# Altium footprint library iTOP4412_main_Clasics_v3_2.PcbLib: 41 footprints (part 3 of 3)
Each footprint in its own frame and in the unit in brackets; x right, y up, seen from the top. Pads: shape width x height; smd on the part's side, far side on the other; paste and mask are expansions set on the pad; w line width, h text height; cw(c..) or ccw(c..) is an arc to the next point about the centre after c.
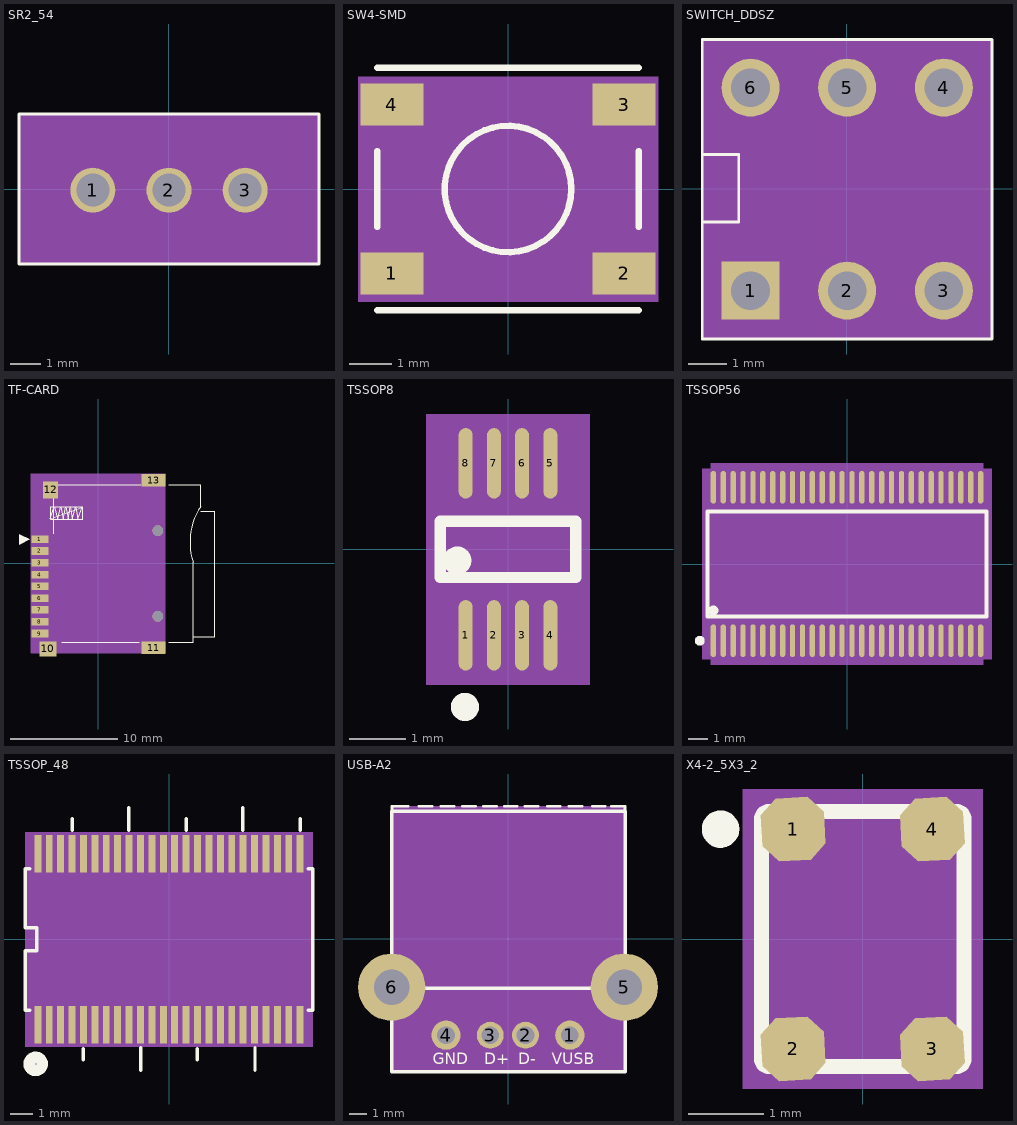
[diagram p2: the footprints below, top view; thin cyan lines are the x and y axes]

## SR2_54 [mm] "SR2_54"
pads (3):
  round 1.5 / inner round 1.524 / far side round 1.5 hole 1.1: 1(-2.54,-0.04) 2(0,-0.04) 3(2.54,-0.04)
Top Overlay:
  lines w0.1: -5,-2.5 5,-2.5 5,2.5 -5,2.5 -5,-2.5
Mechanical 9:
  text "3" at 2.54,0.214 h0.64
  text "1" at -3.81,0.468 h0.64
  text "2" at 0,0.214 h0.64
Mechanical 10:
  region: -5,-2.5 -5,2.5 5,2.5 5,-2.5

## SW4-SMD [mm] "SW4-SMD"
pads (4):
  rect 1.5x1 smd: 1(-2.75,-2) 2(2.75,-2) 3(2.75,2) 4(-2.75,2)
Top Overlay:
  circle w0.15: c0,0 r1.5
  lines w0.15: -3.1,-2.873 3.1,-2.873 ; -3.1,-0.9 -3.1,0.9 ; -3.1,2.873 3.1,2.873 ; 3.1,-0.9 3.1,0.9
Mechanical 9:
  text "2" at 2.51,-2 h0.6
  text "1" at -2.99,-2 h0.6
  text "3" at 2.51,2 h0.6
  text "4" at -2.99,2 h0.6
Mechanical 10:
  region: -3.556,2.667 3.556,2.667 3.556,-2.667 -3.556,-2.667

## SWITCH_DDSZ [mil] "SWITCH_DDSZ"
pads (6):
  rect 60x60 / inner round 60 / far side rect 60x60 hole 40: 1(-99.65,-105.33)
  round 60 hole 40: 2(0.35,-105.33) 3(100.35,-105.33) 4(100.35,104.67) 5(0.35,104.67) 6(-99.65,104.67)
Top Overlay:
  lines w3: -149.65,104.67 -149.65,154.66 150.35,154.66 150.35,-155.34 -149.65,-155.34 -149.65,104.81 ; -149.22,-34.07 -111.88,-34.07 -111.88,35.42 -148.81,35.42 ; -149.65,104.81 -149.63,104.81
Mechanical 9:
  text "5" at 20.35,104.67 h25
  text "2" at 20.35,-105.33 h25
  text "3" at 120.35,-105.33 h25
  text "6" at -79.65,104.67 h25
  text "4" at 120.35,104.67 h25
  text "1" at -79.65,-105.33 h25
Mechanical 10:
  region: -150.06,-155.08 150.06,-155.08 150.06,155.08 -150.06,155.08

## TF-CARD [mil] "TF-CARD"
pads (15):
  rect 63x28 smd: 1(-214.56,88.58) 2(-214.56,45.28) 3(-214.56,1.97) 4(-214.56,-41.34) 5(-214.56,-84.64) 6(-214.56,-127.95) 7(-214.56,-171.26) 8(-214.56,-214.57) 9(-214.56,-257.87)
  rect 63x55 smd: 10(-185.19,-314.12)
  rect 87x47 smd: 11(202.75,-310.12) 13(202.75,305.12)
  rect 55x63 smd: 12(-175.19,269.69)
  round 39.37 / inner round 60 / far side round 39.37 hole 39.37: " "(218.5,-194.88) " "(218.5,120.08)
Top Overlay:
  pour cut-out: -291.5,107.6 -291.5,67.6 -251.5,87.6
  lines w3: -163.38,108.27 -163.38,289.37 156.69,289.37 ; -134.01,-289.37 149.44,-289.37 ; 257.88,-289.37 348.43,-289.37 348.43,3.94 cw(c573.74,77.57) 375.98,208.27 375.99,289.37 257.88,289.37 ; 350,-269.68 427.17,-269.68 427.17,190.95 376.38,190.95 ; -175.99,163.39 -58.27,206.69 -75.98,161.81 -82.28,208.27 -95.28,161.81 -102.75,208.27 -111.42,161.81 -119.3,208.27 -128.34,161.81 -138.19,208.27 -150,161.81 -161.41,208.27 -175.99,163.39 ; -175.19,161.42 -175.19,208.66 -57.09,208.66 -57.09,161.42 -175.19,161.42
Mechanical 9:
  text "8" at -204.56,-214.57 h25
  text "7" at -204.56,-171.26 h25
  text "5" at -204.56,-84.64 h25
  text "1" at -204.56,88.58 h25
  text "3" at -204.56,1.97 h25
  text "2" at -204.56,45.28 h25
  text "4" at -204.56,-41.34 h25
  text "10" at -165.19,-314.12 h25
  text "11" at 222.75,-310.12 h25
  text "13" at 222.75,305.12 h25
  text "6" at -204.56,-127.95 h25
  text "12" at -155.19,269.69 h25
  text "9" at -204.56,-257.87 h25
Mechanical 10:
  region: -246.06,-328.74 246.06,-328.74 246.06,328.74 -246.06,328.74
Mechanical 11:
  lines w1: -246.06,-328.74 246.06,-328.74 246.06,328.74 -246.06,328.74 -246.06,-328.74

## TSSOP8 [mm] "TSSOP8"
pads (8):
  oval 0.25x1.25 smd: 1(-0.75,-1.525) 2(-0.25,-1.525) 3(0.25,-1.525) 4(0.75,-1.525) 5(0.75,1.525) 6(0.25,1.525) 7(-0.25,1.525) 8(-0.75,1.525)
Top Overlay:
  circle w0.25: c-0.9,-0.2 r0.125
  circle w0.25: c-0.762,-2.794 r0.125
  lines w0.2: -1.2,-0.5 1.2,-0.5 1.2,0.5 -1.2,0.5 -1.2,-0.5
Mechanical 9:
  text "1" at -0.75,-1.885 h0.4
  text "8" at -0.75,1.165 h0.4
  text "3" at 0.25,-1.885 h0.4
  text "5" at 0.75,1.165 h0.4
  text "7" at -0.25,1.165 h0.4
  text "2" at -0.25,-1.885 h0.4
  text "4" at 0.75,-1.885 h0.4
  text "6" at 0.25,1.165 h0.4
Mechanical 10:
  region: -1.45,-2.4 1.45,-2.4 1.45,2.4 -1.45,2.4
Mechanical 12:
  pour cut-out: -0.875,-1.6 -0.875,-1.05 -1.2,-1.05 -1.2,1.05 -0.875,1.05 -0.875,1.6 0.875,1.6 0.875,1.05 1.2,1.05 1.2,-1.05 0.875,-1.05 0.875,-1.6

## TSSOP56 [mm] "TSSOP56"
pads (56):
  oval 0.27x1.65 smd: 1(-6.75,-3.875) 2(-6.25,-3.875) 3(-5.75,-3.875) 4(-5.25,-3.875) 5(-4.75,-3.875) 6(-4.25,-3.875) 7(-3.75,-3.875) 8(-3.25,-3.875) 9(-2.75,-3.875) 10(-2.25,-3.875) 11(-1.75,-3.875) 12(-1.25,-3.875) 13(-0.75,-3.875) 14(-0.25,-3.875) 15(0.25,-3.875) 16(0.75,-3.875) 17(1.25,-3.875) 18(1.75,-3.875) 19(2.25,-3.875) 20(2.75,-3.875) 21(3.25,-3.875) 22(3.75,-3.875) 23(4.25,-3.875) 24(4.75,-3.875) 25(5.25,-3.875) 26(5.75,-3.875) 27(6.25,-3.875) 28(6.75,-3.875) 29(6.75,3.875) 30(6.25,3.875) 31(5.75,3.875) 32(5.25,3.875) 33(4.75,3.875) 34(4.25,3.875) 35(3.75,3.875) 36(3.25,3.875) 37(2.75,3.875) 38(2.25,3.875) 39(1.75,3.875) 40(1.25,3.875) 41(0.75,3.875) 42(0.25,3.875) 43(-0.25,3.875) 44(-0.75,3.875) 45(-1.25,3.875) 46(-1.75,3.875) 47(-2.25,3.875) 48(-2.75,3.875) 49(-3.25,3.875) 50(-3.75,3.875) 51(-4.25,3.875) 52(-4.75,3.875) 53(-5.25,3.875) 54(-5.75,3.875) 55(-6.25,3.875) 56(-6.75,3.875)
Top Overlay:
  circle w0.25: c-6.75,-2.35 r0.125
  circle w0.25: c-7.435,-3.875 r0.125
  lines w0.2: -7.05,-2.65 7.05,-2.65 7.05,2.65 -7.05,2.65 -7.05,-2.65
Mechanical 9:
  text "34" at 3.93,3.675 h0.4
  text "9" at -2.91,-4.075 h0.4
  text "44" at -1.07,3.675 h0.4
  text "1" at -6.91,-4.075 h0.4
  text "26" at 5.43,-4.075 h0.4
  text "31" at 5.43,3.675 h0.4
  text "30" at 5.93,3.675 h0.4
  text "28" at 6.43,-4.075 h0.4
  text "27" at 5.93,-4.075 h0.4
  text "32" at 4.93,3.675 h0.4
  text "10" at -2.57,-4.075 h0.4
  text "5" at -4.91,-4.075 h0.4
  text "2" at -6.41,-4.075 h0.4
  text "16" at 0.43,-4.075 h0.4
  text "13" at -1.07,-4.075 h0.4
  text "18" at 1.43,-4.075 h0.4
  text "21" at 2.93,-4.075 h0.4
  text "25" at 4.93,-4.075 h0.4
  text "36" at 2.93,3.675 h0.4
  text "43" at -0.57,3.675 h0.4
  text "35" at 3.43,3.675 h0.4
  text "33" at 4.43,3.675 h0.4
  text "53" at -5.57,3.675 h0.4
  text "49" at -3.57,3.675 h0.4
  text "50" at -4.07,3.675 h0.4
  text "29" at 6.43,3.675 h0.4
  text "8" at -3.41,-4.075 h0.4
  text "55" at -6.57,3.675 h0.4
  text "6" at -4.41,-4.075 h0.4
  text "7" at -3.91,-4.075 h0.4
  text "54" at -6.07,3.675 h0.4
  text "3" at -5.91,-4.075 h0.4
  text "4" at -5.41,-4.075 h0.4
  text "56" at -7.07,3.675 h0.4
  text "51" at -4.57,3.675 h0.4
  text "12" at -1.57,-4.075 h0.4
  text "14" at -0.57,-4.075 h0.4
  text "11" at -2.07,-4.075 h0.4
  text "52" at -5.07,3.675 h0.4
  text "15" at -0.07,-4.075 h0.4
  text "19" at 1.93,-4.075 h0.4
  text "20" at 2.43,-4.075 h0.4
  text "22" at 3.43,-4.075 h0.4
  text "23" at 3.93,-4.075 h0.4
  text "24" at 4.43,-4.075 h0.4
  text "42" at -0.07,3.675 h0.4
  text "46" at -2.07,3.675 h0.4
  text "39" at 1.43,3.675 h0.4
  text "40" at 0.93,3.675 h0.4
  text "47" at -2.57,3.675 h0.4
  text "41" at 0.43,3.675 h0.4
  text "45" at -1.57,3.675 h0.4
  text "17" at 0.93,-4.075 h0.4
  text "48" at -3.07,3.675 h0.4
  text "37" at 2.43,3.675 h0.4
  text "38" at 1.93,3.675 h0.4
Mechanical 10:
  region: 7.3,-4.8 7.3,4.8 -7.3,4.8 -7.3,-4.8
Mechanical 12:
  pour cut-out: -6.885,-5.1 -6.885,-4.05 -7.05,-4.05 -7.05,4.05 -6.885,4.05 -6.885,5.1 6.885,5.1 6.885,4.05 7.05,4.05 7.05,-4.05 6.885,-4.05 6.885,-5.1

## TSSOP_48 [mil] "TSSOP_48"
pads (48):
  rect 12x65 smd: 1(-226.38,-147.64) 2(-206.69,-147.64) 3(-187.01,-147.64) 4(-167.32,-147.64) 5(-147.64,-147.64) 6(-127.95,-147.64) 7(-108.27,-147.64) 8(-88.58,-147.64) 9(-68.9,-147.64) 10(-49.21,-147.64) 11(-29.53,-147.64) 12(-9.84,-147.64) 13(9.84,-147.64) 14(29.53,-147.64) 15(49.21,-147.64) 16(68.9,-147.64) 17(88.58,-147.64) 18(108.27,-147.64) 19(127.95,-147.64) 20(147.64,-147.64) 21(167.32,-147.64) 22(187.01,-147.64) 23(206.69,-147.64) 24(226.38,-147.64) 25(226.38,147.64) 26(206.69,147.64) 27(187.01,147.64) 28(167.32,147.64) 29(147.64,147.64) 30(127.95,147.64) 31(108.27,147.64) 32(88.58,147.64) 33(68.9,147.64) 34(49.21,147.64) 35(29.53,147.64) 36(9.84,147.64) 37(-9.84,147.64) 38(-29.53,147.64) 39(-49.21,147.64) 40(-68.9,147.64) 41(-88.58,147.64) 42(-108.27,147.64) 43(-127.95,147.64) 44(-147.64,147.64) 45(-167.32,147.64) 46(-187.01,147.64) 47(-206.69,147.64) 48(-226.38,147.64)
Top Overlay:
  circle w20: c-230,-215 r11.18
  lines w5.98: -240.16,-122.05 -248.03,-122.05 -248.03,-19.69 -228.35,-19.69 -228.35,19.68 -248.03,19.68 -248.03,122.04 -240.16,122.04 ; -166.93,188.19 -166.93,207.87 ; -148.03,-208.27 -148.03,-188.59 ; -69.29,188.19 -69.29,227.56 ; -48.43,-226.38 -48.43,-187.01 ; 29.92,188.19 29.92,207.87 ; 48.82,-208.27 48.82,-188.59 ; 127.56,188.19 127.56,227.56 ; 148.42,-226.38 148.42,-187.01 ; 226.77,188.19 226.77,207.87 ; 240.16,-122.05 248.03,-122.05 248.03,122.04 240.16,122.04
Mechanical 9:
  text "44" at -127.64,147.63 h25
  text "3" at -177.01,-147.64 h25
  text "20" at 167.64,-147.64 h25
  text "14" at 49.53,-147.64 h25
  text "35" at 49.53,147.63 h25
  text "16" at 88.9,-147.64 h25
  text "12" at 10.16,-147.64 h25
  text "6" at -117.95,-147.64 h25
  text "8" at -78.58,-147.64 h25
  text "13" at 29.84,-147.64 h25
  text "19" at 147.95,-147.64 h25
  text "30" at 147.95,147.63 h25
  text "22" at 207.01,-147.64 h25
  text "26" at 226.69,147.63 h25
  text "23" at 226.69,-147.64 h25
  text "27" at 207.01,147.63 h25
  text "7" at -98.27,-147.64 h25
  text "18" at 128.27,-147.64 h25
  text "17" at 108.58,-147.64 h25
  text "9" at -58.9,-147.64 h25
  text "11" at -9.53,-147.64 h25
  text "5" at -137.64,-147.64 h25
  text "29" at 167.64,147.63 h25
  text "1" at -216.38,-147.64 h25
  text "31" at 128.27,147.63 h25
  text "42" at -88.27,147.63 h25
  text "33" at 88.9,147.63 h25
  text "32" at 108.58,147.63 h25
  text "40" at -48.9,147.63 h25
  text "41" at -68.58,147.63 h25
  text "36" at 29.84,147.63 h25
  text "43" at -107.95,147.63 h25
  text "38" at -9.53,147.63 h25
  text "46" at -167.01,147.63 h25
  text "2" at -196.69,-147.64 h25
  text "15" at 69.21,-147.64 h25
  text "4" at -157.32,-147.64 h25
  text "10" at -29.21,-147.64 h25
  text "21" at 187.32,-147.64 h25
  text "34" at 69.21,147.63 h25
  text "28" at 187.32,147.63 h25
  text "45" at -147.32,147.63 h25
  text "39" at -29.21,147.63 h25
  text "48" at -206.38,147.63 h25
  text "24" at 246.38,-147.64 h25
  text "25" at 246.38,147.63 h25
  text "37" at 10.16,147.63 h25
  text "47" at -186.69,147.63 h25
Mechanical 10:
  region: -248.03,-185.04 -248.03,185.04 248.03,185.04 248.03,-185.04

## USB-A2 [mil] "USB-A2"
pads (6):
  round 65 / inner round 60 / far side round 65 hole 39.37: 1(136.5,-214.5) 4(-139.1,-214.5)
  round 60 hole 39.37: 2(37.9,-214.5) 3(-40.6,-214.5)
  round 150 / inner round 60 / far side round 150 hole 78.74: 5(257.9,-107.5) 6(-260.1,-107.5)
Top Overlay:
  lines w6: -259.5,283.5 -259.5,295.5 -223.5,295.5 ; -199.5,295.5 -170.5,295.5 ; -150.5,295.5 -121.5,295.5 ; -102.5,295.5 -73.5,295.5 ; -55.5,295.5 -26.5,295.5 ; -9.5,295.5 19.5,295.5 ; 36.5,295.5 65.5,295.5 ; 86.5,295.5 115.5,295.5 ; 134.5,295.5 163.5,295.5 ; 186.5,295.5 215.5,295.5 ; 229.5,295.5 259.5,295.5 259.5,283.5
  lines w8: -260.1,-107.5 -260.1,-296 259.9,-296 259.9,284 -260.1,284 -260.1,-107.9 -258.5,-109.5 256.5,-109.5
  text "GND" at -168.5,-279.5 h25
  text "D+" at -53.5,-279.5 h25
  text "D-" at 21.5,-279.5 h25
  text "VUSB" at 96.5,-279.5 h25
Mechanical 9:
  text "2" at 37.9,-204.5 h25
  text "3" at -40.6,-204.5 h25
  text "1" at 136.5,-204.5 h25
  text "5" at 257.9,-97.5 h25
  text "6" at -260.1,-97.5 h25
  text "4" at -139.1,-204.5 h25
Mechanical 10:
  region: -259.5,295.5 -259.5,-295.5 259.5,-295.5 259.5,295.5

## X4-2_5X3_2 [mil] "X4-2_5X3_2"
pads (4):
  oct 33.3x33.3 smd rot 3: 1(-36.54,57.68) 2(-36.54,-57.68) 3(36.54,-57.68) 4(36.54,57.68)
Top Overlay:
  circle w9.84: c-74.65,57.68 r4.91
  lines w7.87: -53.15,-62.99 ccw(c-49.21,-62.99) -49.21,-66.93 49.21,-66.93 ccw(c49.21,-62.99) 53.15,-62.99 53.15,62.99 ccw(c49.21,62.99) 49.21,66.93 -49.21,66.93 ccw(c-49.21,62.99) -53.15,62.99 -53.15,-62.99
Mechanical 9:
  text "1" at -30.24,49.81 h15.75
  text "3" at 42.83,-65.55 h15.75
  text "4" at 42.83,49.81 h15.75
  text "2" at -30.24,-65.55 h15.75
Mechanical 10:
  region: -62.99,78.74 -62.99,-78.74 62.99,-78.74 62.99,78.74
Mechanical 12:
  pour cut-out: -53.15,-66.93 53.15,-66.93 53.15,66.93 -53.15,66.93